# Altium schematic symbol library DRV8412DDWR.SchLib: 1 symbol
Pins are listed as number, name and electrical type; pins without a type are passive.

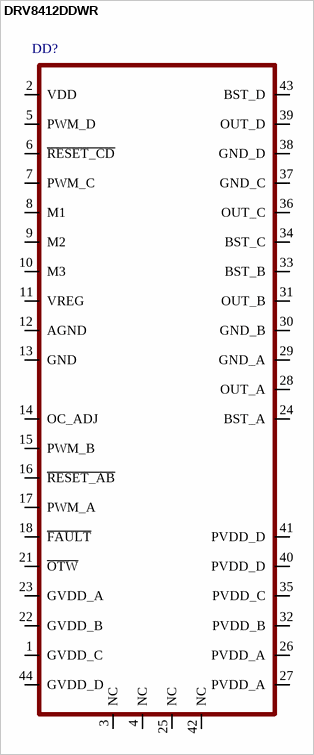
[diagram p0: symbol DRV8412DDWR]

## DRV8412DDWR
designator DD?
pins: 1 GVDD_C, 2 VDD, 3 NC, 4 NC, 5 PWM_D, 6 ~{RESET_CD}, 7 PWM_C, 8 M1, 9 M2, 10 M3, 11 VREG, 12 AGND, 13 GND, 14 OC_ADJ, 15 PWM_B, 16 ~{RESET_AB}, 17 PWM_A, 18 ~{FAULT}, 21 ~{OTW}, 22 GVDD_B, 23 GVDD_A, 24 BST_A, 25 NC, 26 PVDD_A, 27 PVDD_A, 28 OUT_A, 29 GND_A, 30 GND_B, 31 OUT_B, 32 PVDD_B, 33 BST_B, 34 BST_C, 35 PVDD_C, 36 OUT_C, 37 GND_C, 38 GND_D, 39 OUT_D, 40 PVDD_D, 41 PVDD_D, 42 NC, 43 BST_D, 44 GVDD_D